# EAGLE library part SW-EC11* (library jt-alps-rotary)
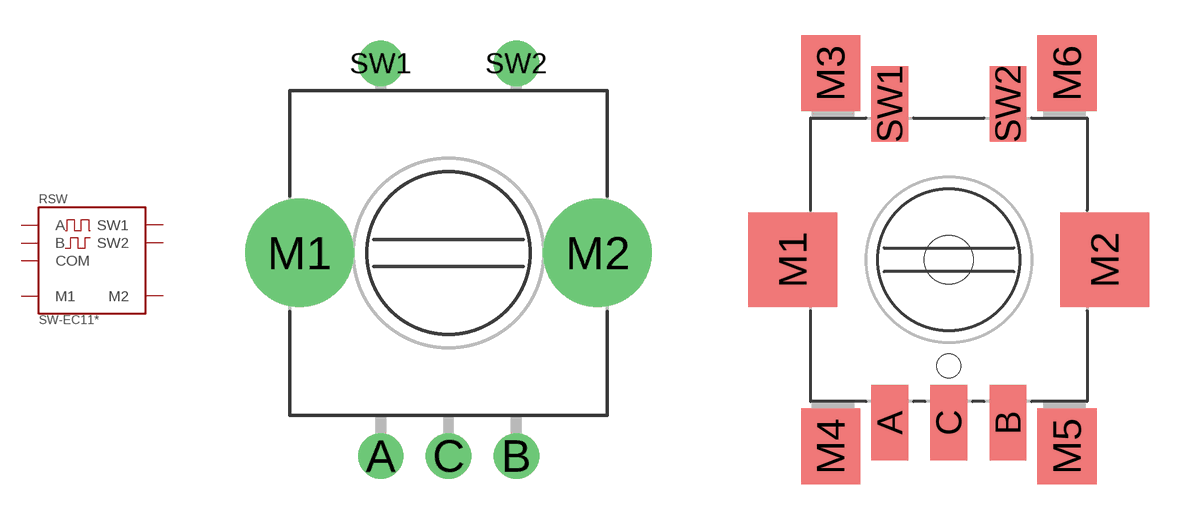
[diagram p0: symbol with the pads of EC11E; footprints EC11E, EC11J]

Designator prefix RSW

## SW-EC11E  [EC11E]
A  A
B  B
C  COM
M1  M1
M2  M2
SW1  SW1
SW2  SW2

## SW-EC11J  [EC11J]
Pads as for EC11E

## Footprint EC11E (pad centres in mm)
drill 1 pad 1.676 round: A -2.5,-7.5; B 2.5,-7.5; C 0,-7.5; SW1 -2.5,7; SW2 2.5,7
drill 2.6 pad 4 round: M1 -5.5,0; M2 5.5,0

## Footprint EC11J (pad centres in mm)
smd 1.55 x 3.2: A -2.5,-6.9; B 2.5,-6.9; C 0,-6.9; SW1 -2.5,6.6; SW2 2.5,6.6
smd 3.75 x 4: M1 -6.6,0; M2 6.6,0
smd 2.5 x 3.2: M3 -5,7.9; M4 -5,-7.9; M5 5,-7.9; M6 5,7.9
hole 2.05 at 0,0
hole 1 at 0,-4.5